# Altium schematic symbol library MDBT50_52833_SCHLIB_210706.SchLib: 1 symbol
Pins are listed as number, name and electrical type; pins without a type are passive.

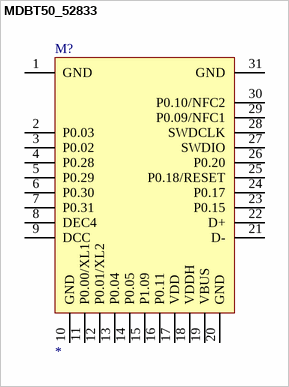
[diagram p0: symbol MDBT50_52833]

## MDBT50_52833
designator M?
MDBT50_52833
footprint MDBT50
pins: 1 GND, 2 P0.03, 3 P0.02, 4 P0.28, 5 P0.29, 6 P0.30, 7 P0.31, 8 DEC4, 9 DCC, 10 GND, 11 P0.00/XL1, 12 P0.01/XL2, 13 P0.04, 14 P0.05, 15 P1.09, 16 P0.11, 17 VDD, 18 VDDH, 19 VBUS, 20 GND, 21 D-, 22 D+, 23 P0.15, 24 P0.17, 25 P0.18/RESET, 26 P0.20, 27 SWDIO, 28 SWDCLK, 29 P0.09/NFC1, 30 P0.10/NFC2, 31 GND